# Altium schematic symbol library MCP2562-E_P.SchLib: 1 symbol
Pins are listed as number, name and electrical type; pins without a type are passive.

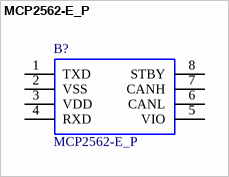
[diagram p0: symbol MCP2562-E_P]

## MCP2562-E_P
designator B?
CAN Transceiver 1Mbps 5V 125degC PDIP8 Microchip MCP2562-E/P, CAN Transceiver 1-channel IEC 61000-4-2, 8-Pin PDIP; Geometry.Height: 5.334mm; Supplier_Name: RS; RS Part Number: 7990225; Manufacturer_Name: Microchip; Manufacturer_Part_Number: MCP2562-E/P; Allied_Number: *; Other Part Number: *; Datasheet Link: http://uk.rs-online.com/webdocs/1380/0900766b81380aaf.pdf; 3D Package: *
footprint DIP781W56P254L950H533Q8N
pins: 1 TXD, 2 VSS, 3 VDD, 4 RXD, 5 VIO, 6 CANL, 7 CANH, 8 STBY